# Altium integrated library FSC Logic Buffer Line Driver.IntLib: 127 symbols (part 2 of 3)
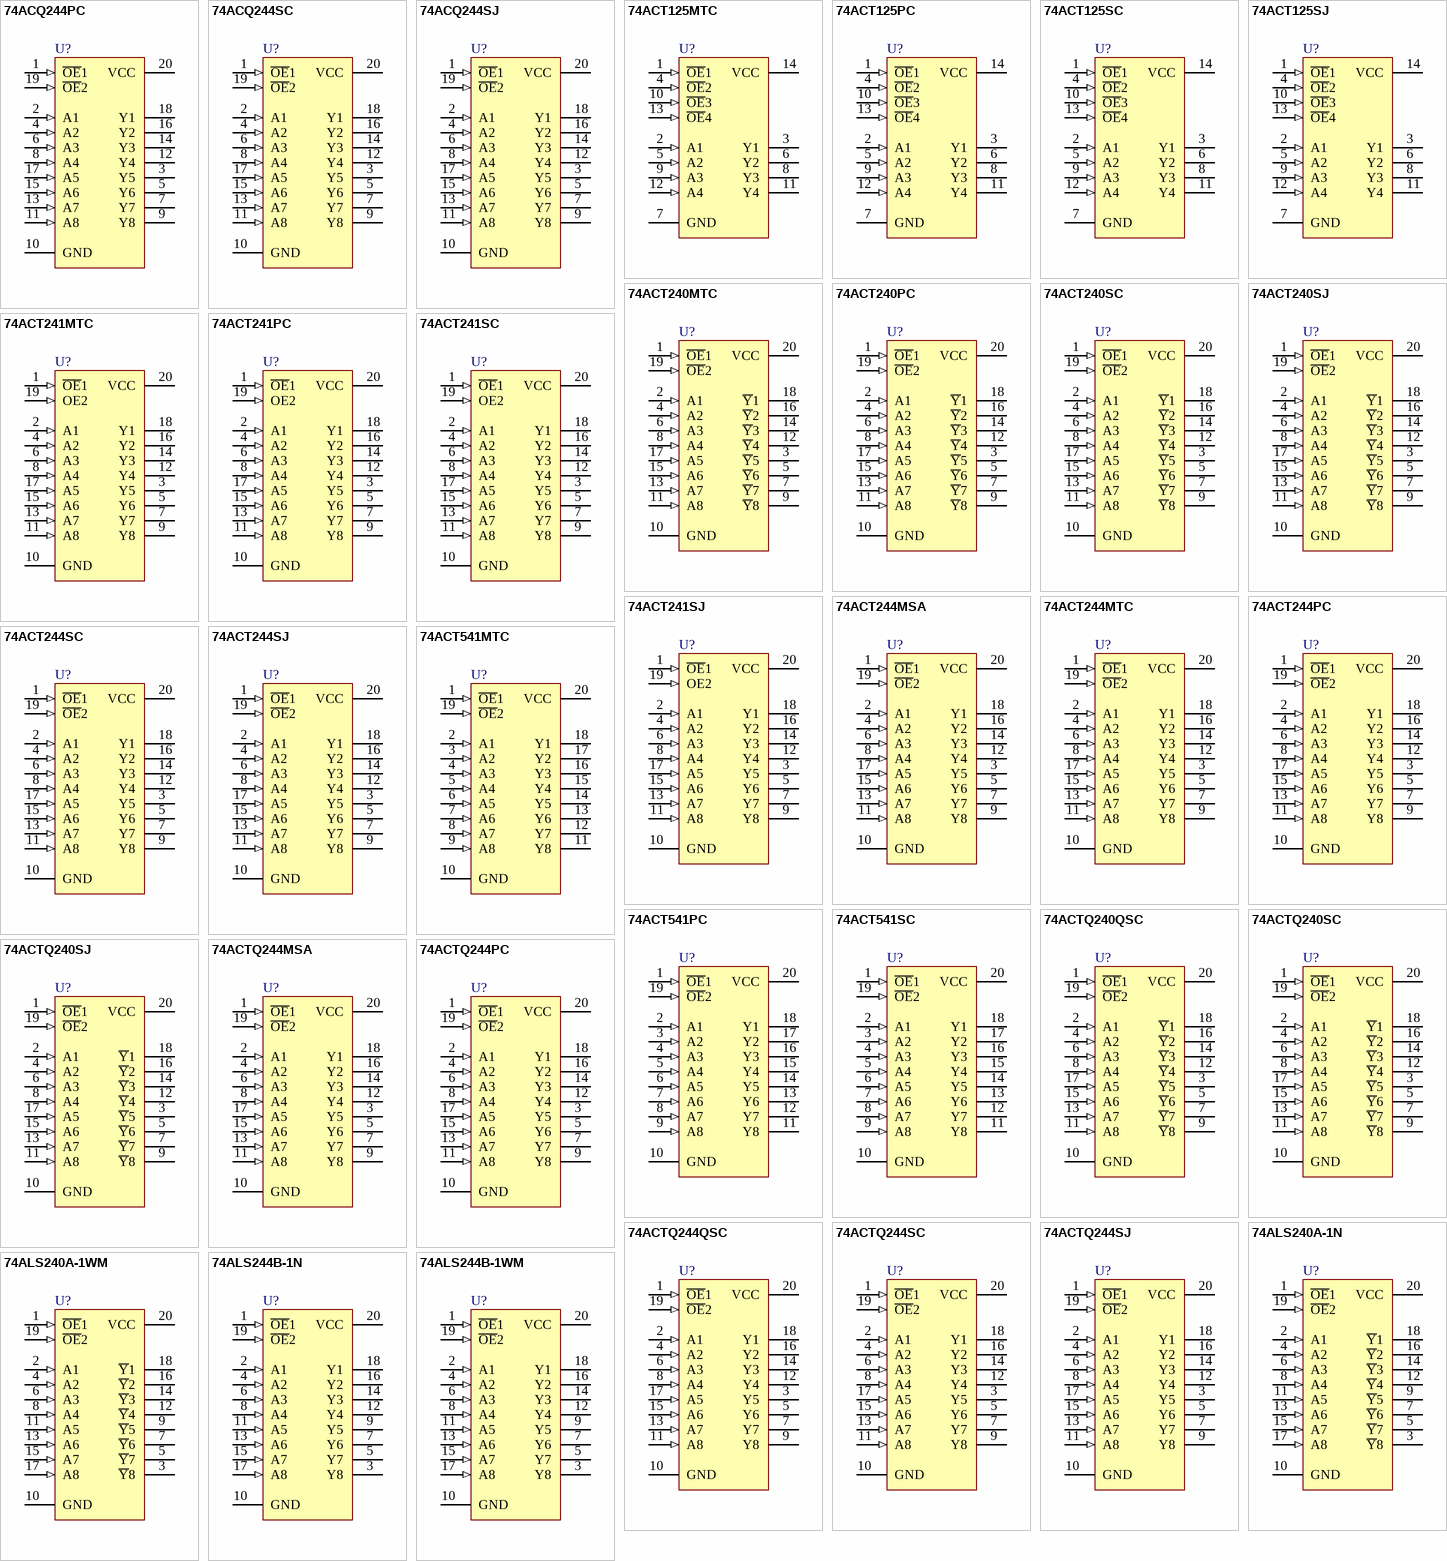
[diagram p5: symbols 74ACQ244PC to 74ALS244B-1WM]

## 74ACT240SJ
designator U?
Octal Buffer/Line Driver with 3-State Output; Published: 17-Jul-2002; LatestRevisionDate: 13-Apr-2006; LatestRevisionNote: IPC-7351 Footprint Added.; DatasheetVersion: Nov-1999; PackageVersion: 2000; PackageReference: M20D; Publisher: Altium Limited; PackageDescription: 20-Pin Small Outline Package 1.27 mm Pitch; ComponentLink1Description: Manufacturer Link; ComponentLink1URL: http://www.fairchildsemi.com/; ComponentLink2Description: Datasheet; ComponentLink2URL: http://www.fairchildsemi.com/ds/74%2F74AC240.pdf
footprint M20D_N (SOP, 20-Leads, Body 12.6x5.3mm, Pitch 1.27mm, IPC Medium Density)
footprint M20D_L (SOP, 20-Leads, Body 12.6x5.3mm, Pitch 1.27mm, IPC High Density)
footprint M20D_M (SOP, 20-Leads, Body 12.6x5.3mm, Pitch 1.27mm, IPC Low Density)
3D model M20D (20-Pin Small Outline Package 1.27 mm Pitch)
signal-integrity model 74ACT240SJ
pins: 1 ~{OE}1 (in), 2 A1 (in), 3 ~{Y}5 (hiz), 4 A2 (in), 5 ~{Y}6 (hiz), 6 A3 (in), 7 ~{Y}7 (hiz), 8 A4 (in), 9 ~{Y}8 (hiz), 10 GND (power), 11 A8 (in), 12 ~{Y}4 (hiz), 13 A7 (in), 14 ~{Y}3 (hiz), 15 A6 (in), 16 ~{Y}2 (hiz), 17 A5 (in), 18 ~{Y}1 (hiz), 19 ~{OE}2 (in), 20 VCC (power)

## 74ACT241MTC
designator U?
Octal Buffer/Line Driver with 3-State Output; Published: 17-Jul-2002; LatestRevisionDate: 29-May-2009; LatestRevisionNote: IPC-7351 Footprint Added.; DatasheetVersion: Nov-1999; PackageVersion: 2000; PackageReference: MTC20; Publisher: Altium Limited; PackageDescription: 20-Pin Thin Small Outline Package 0.65 mm Pitch; ComponentLink1Description: Manufacturer Link; ComponentLink1URL: http://www.fairchildsemi.com/; ComponentLink2Description: Datasheet; ComponentLink2URL: http://www.fairchildsemi.com/ds/74%2F74AC241.pdf
footprint MTC20_N (TSOP, 20-Leads, Body 6.5x4.4mm, Pitch 0.65mm, IPC Medium Density)
footprint MTC20_L (TSOP, 20-Leads, Body 6.5x4.4mm, Pitch 0.65mm, IPC High Density)
footprint MTC20_M (TSOP, 20-Leads, Body 6.5x4.4mm, Pitch 0.65mm, IPC Low Density)
3D model MTC20 (20-Pin Thin Small Outline Package 0.65 mm Pitch)
signal-integrity model 74ACT241MTC
pins: 1 ~{OE}1 (in), 2 A1 (in), 3 Y5 (hiz), 4 A2 (in), 5 Y6 (hiz), 6 A3 (in), 7 Y7 (hiz), 8 A4 (in), 9 Y8 (hiz), 10 GND (power), 11 A8 (in), 12 Y4 (hiz), 13 A7 (in), 14 Y3 (hiz), 15 A6 (in), 16 Y2 (hiz), 17 A5 (in), 18 Y1 (hiz), 19 OE2 (in), 20 VCC (power)

## 74ACT241PC
designator U?
Octal Buffer/Line Driver with 3-State Output; Published: 17-Jul-2002; LatestRevisionDate: 29-May-2009; LatestRevisionNote: Component Body Added.; DatasheetVersion: Nov-1999; PackageVersion: 2000; PackageReference: N20A; Publisher: Altium Limited; PackageDescription: DIP, 20-Pin, Row Spacing 7.62 mm, Pitch 2.54 mm; Code_JEDEC: MS-001-AD; ComponentLink1Description: Manufacturer Link; ComponentLink1URL: http://www.fairchildsemi.com/; ComponentLink2Description: Datasheet; ComponentLink2URL: http://www.fairchildsemi.com/ds/74%2F74AC241.pdf
footprint N20A (DIP, 20-Leads, Row Spacing 7.62mm, Pitch 2.54mm, Body 26.07x6.6mm)
3D model N20A (DIP, 20-Pin, Row Spacing 7.62 mm, Pitch 2.54 mm)
signal-integrity model 74ACT241PC
pins: 1 ~{OE}1 (in), 2 A1 (in), 3 Y5 (hiz), 4 A2 (in), 5 Y6 (hiz), 6 A3 (in), 7 Y7 (hiz), 8 A4 (in), 9 Y8 (hiz), 10 GND (power), 11 A8 (in), 12 Y4 (hiz), 13 A7 (in), 14 Y3 (hiz), 15 A6 (in), 16 Y2 (hiz), 17 A5 (in), 18 Y1 (hiz), 19 OE2 (in), 20 VCC (power)

## 74ACT241SC
designator U?
Octal Buffer/Line Driver with 3-State Output; Published: 17-Jul-2002; LatestRevisionDate: 13-Apr-2006; LatestRevisionNote: IPC-7351 Footprint Added.; DatasheetVersion: Nov-1999; PackageVersion: 2000; PackageReference: M20B; Publisher: Altium Limited; PackageDescription: 20-Pin Small Outline Integrated Circuit 1.27 mm Pitch; Code_JEDEC: MS-013-AC; Code_IPC: SOIC127P1030-20; ComponentLink1Description: Manufacturer Link; ComponentLink1URL: http://www.fairchildsemi.com/; ComponentLink2Description: Datasheet; ComponentLink2URL: http://www.fairchildsemi.com/ds/74%2F74AC241.pdf
footprint M20B_N (SOIC, 20-Leads, Body 12.8x7.5mm, Pitch 1.27mm, IPC Medium Density)
footprint M20B_L (SOIC, 20-Leads, Body 12.8x7.5mm, Pitch 1.27mm, IPC High Density)
footprint M20B_M (SOIC, 20-Leads, Body 12.8x7.5mm, Pitch 1.27mm, IPC Low Density)
3D model M20B (20-Pin Small Outline Integrated Circuit 1.27 mm Pitch)
signal-integrity model 74ACT241SC
pins: 1 ~{OE}1 (in), 2 A1 (in), 3 Y5 (hiz), 4 A2 (in), 5 Y6 (hiz), 6 A3 (in), 7 Y7 (hiz), 8 A4 (in), 9 Y8 (hiz), 10 GND (power), 11 A8 (in), 12 Y4 (hiz), 13 A7 (in), 14 Y3 (hiz), 15 A6 (in), 16 Y2 (hiz), 17 A5 (in), 18 Y1 (hiz), 19 OE2 (in), 20 VCC (power)

## 74ACT241SJ
designator U?
Octal Buffer/Line Driver with 3-State Output; Published: 17-Jul-2002; LatestRevisionDate: 13-Apr-2006; LatestRevisionNote: IPC-7351 Footprint Added.; DatasheetVersion: Nov-1999; PackageVersion: 2000; PackageReference: M20D; Publisher: Altium Limited; PackageDescription: 20-Pin Small Outline Package 1.27 mm Pitch; ComponentLink1Description: Manufacturer Link; ComponentLink1URL: http://www.fairchildsemi.com/; ComponentLink2Description: Datasheet; ComponentLink2URL: http://www.fairchildsemi.com/ds/74%2F74AC241.pdf
footprint M20D_N (SOP, 20-Leads, Body 12.6x5.3mm, Pitch 1.27mm, IPC Medium Density)
footprint M20D_L (SOP, 20-Leads, Body 12.6x5.3mm, Pitch 1.27mm, IPC High Density)
footprint M20D_M (SOP, 20-Leads, Body 12.6x5.3mm, Pitch 1.27mm, IPC Low Density)
3D model M20D (20-Pin Small Outline Package 1.27 mm Pitch)
signal-integrity model 74ACT241SJ
pins: 1 ~{OE}1 (in), 2 A1 (in), 3 Y5 (hiz), 4 A2 (in), 5 Y6 (hiz), 6 A3 (in), 7 Y7 (hiz), 8 A4 (in), 9 Y8 (hiz), 10 GND (power), 11 A8 (in), 12 Y4 (hiz), 13 A7 (in), 14 Y3 (hiz), 15 A6 (in), 16 Y2 (hiz), 17 A5 (in), 18 Y1 (hiz), 19 OE2 (in), 20 VCC (power)

## 74ACT244MSA
designator U?
Octal Buffer/Line Driver with 3-State Output; Published: 17-Jul-2002; LatestRevisionDate: 29-May-2009; LatestRevisionNote: IPC-7351 Footprint Added.; DatasheetVersion: Nov-1999; PackageVersion: 2000; PackageReference: MSA20; Publisher: Altium Limited; PackageDescription: 20-Pin Small Outline Package 0.65 mm Pitch; ComponentLink1Description: Manufacturer Link; ComponentLink1URL: http://www.fairchildsemi.com/; ComponentLink2Description: Datasheet; ComponentLink2URL: http://www.fairchildsemi.com/ds/74%2F74AC244.pdf
footprint MSA20_N (SOP, 20-Leads, Body 7.3x5.3mm, Pitch 0.65mm, IPC Medium Density)
footprint MSA20_L (SOP, 20-Leads, Body 7.3x5.3mm, Pitch 0.65mm, IPC High Density)
footprint MSA20_M (SOP, 20-Leads, Body 7.3x5.3mm, Pitch 0.65mm, IPC Low Density)
3D model MSA20 (20-Pin Small Outline Package 0.65 mm Pitch)
signal-integrity model 74ACT244MSA
pins: 1 ~{OE}1 (in), 2 A1 (in), 3 Y5 (hiz), 4 A2 (in), 5 Y6 (hiz), 6 A3 (in), 7 Y7 (hiz), 8 A4 (in), 9 Y8 (hiz), 10 GND (power), 11 A8 (in), 12 Y4 (hiz), 13 A7 (in), 14 Y3 (hiz), 15 A6 (in), 16 Y2 (hiz), 17 A5 (in), 18 Y1 (hiz), 19 ~{OE}2 (in), 20 VCC (power)

## 74ACT244MTC
designator U?
Octal Buffer/Line Driver with 3-State Output; Published: 17-Jul-2002; LatestRevisionDate: 29-May-2009; LatestRevisionNote: IPC-7351 Footprint Added.; DatasheetVersion: Nov-1999; PackageVersion: 2000; PackageReference: MTC20; Publisher: Altium Limited; PackageDescription: 20-Pin Thin Small Outline Package 0.65 mm Pitch; ComponentLink1Description: Manufacturer Link; ComponentLink1URL: http://www.fairchildsemi.com/; ComponentLink2Description: Datasheet; ComponentLink2URL: http://www.fairchildsemi.com/ds/74%2F74AC244.pdf
footprint MTC20_N (TSOP, 20-Leads, Body 6.5x4.4mm, Pitch 0.65mm, IPC Medium Density)
footprint MTC20_L (TSOP, 20-Leads, Body 6.5x4.4mm, Pitch 0.65mm, IPC High Density)
footprint MTC20_M (TSOP, 20-Leads, Body 6.5x4.4mm, Pitch 0.65mm, IPC Low Density)
3D model MTC20 (20-Pin Thin Small Outline Package 0.65 mm Pitch)
signal-integrity model 74ACT244MTC
pins: 1 ~{OE}1 (in), 2 A1 (in), 3 Y5 (hiz), 4 A2 (in), 5 Y6 (hiz), 6 A3 (in), 7 Y7 (hiz), 8 A4 (in), 9 Y8 (hiz), 10 GND (power), 11 A8 (in), 12 Y4 (hiz), 13 A7 (in), 14 Y3 (hiz), 15 A6 (in), 16 Y2 (hiz), 17 A5 (in), 18 Y1 (hiz), 19 ~{OE}2 (in), 20 VCC (power)

## 74ACT244PC
designator U?
Octal Buffer/Line Driver with 3-State Output; Published: 17-Jul-2002; LatestRevisionDate: 29-May-2009; LatestRevisionNote: Component Body Added.; DatasheetVersion: Nov-1999; PackageVersion: 2000; PackageReference: N20A; Publisher: Altium Limited; PackageDescription: DIP, 20-Pin, Row Spacing 7.62 mm, Pitch 2.54 mm; Code_JEDEC: MS-001-AD; ComponentLink1Description: Manufacturer Link; ComponentLink1URL: http://www.fairchildsemi.com/; ComponentLink2Description: Datasheet; ComponentLink2URL: http://www.fairchildsemi.com/ds/74%2F74AC244.pdf
footprint N20A (DIP, 20-Leads, Row Spacing 7.62mm, Pitch 2.54mm, Body 26.07x6.6mm)
3D model N20A (DIP, 20-Pin, Row Spacing 7.62 mm, Pitch 2.54 mm)
signal-integrity model 74ACT244PC
pins: 1 ~{OE}1 (in), 2 A1 (in), 3 Y5 (hiz), 4 A2 (in), 5 Y6 (hiz), 6 A3 (in), 7 Y7 (hiz), 8 A4 (in), 9 Y8 (hiz), 10 GND (power), 11 A8 (in), 12 Y4 (hiz), 13 A7 (in), 14 Y3 (hiz), 15 A6 (in), 16 Y2 (hiz), 17 A5 (in), 18 Y1 (hiz), 19 ~{OE}2 (in), 20 VCC (power)

## 74ACT244SC
designator U?
Octal Buffer/Line Driver with 3-State Output; Published: 17-Jul-2002; LatestRevisionDate: 13-Apr-2006; LatestRevisionNote: IPC-7351 Footprint Added.; DatasheetVersion: Nov-1999; PackageVersion: 2000; PackageReference: M20B; Publisher: Altium Limited; PackageDescription: 20-Pin Small Outline Integrated Circuit 1.27 mm Pitch; Code_JEDEC: MS-013-AC; Code_IPC: SOIC127P1030-20; ComponentLink1Description: Manufacturer Link; ComponentLink1URL: http://www.fairchildsemi.com/; ComponentLink2Description: Datasheet; ComponentLink2URL: http://www.fairchildsemi.com/ds/74%2F74AC244.pdf
footprint M20B_N (SOIC, 20-Leads, Body 12.8x7.5mm, Pitch 1.27mm, IPC Medium Density)
footprint M20B_L (SOIC, 20-Leads, Body 12.8x7.5mm, Pitch 1.27mm, IPC High Density)
footprint M20B_M (SOIC, 20-Leads, Body 12.8x7.5mm, Pitch 1.27mm, IPC Low Density)
3D model M20B (20-Pin Small Outline Integrated Circuit 1.27 mm Pitch)
signal-integrity model 74ACT244SC
pins: 1 ~{OE}1 (in), 2 A1 (in), 3 Y5 (hiz), 4 A2 (in), 5 Y6 (hiz), 6 A3 (in), 7 Y7 (hiz), 8 A4 (in), 9 Y8 (hiz), 10 GND (power), 11 A8 (in), 12 Y4 (hiz), 13 A7 (in), 14 Y3 (hiz), 15 A6 (in), 16 Y2 (hiz), 17 A5 (in), 18 Y1 (hiz), 19 ~{OE}2 (in), 20 VCC (power)

## 74ACT244SJ
designator U?
Octal Buffer/Line Driver with 3-State Output; Published: 17-Jul-2002; LatestRevisionDate: 13-Apr-2006; LatestRevisionNote: IPC-7351 Footprint Added.; DatasheetVersion: Nov-1999; PackageVersion: 2000; PackageReference: M20D; Publisher: Altium Limited; PackageDescription: 20-Pin Small Outline Package 1.27 mm Pitch; ComponentLink1Description: Manufacturer Link; ComponentLink1URL: http://www.fairchildsemi.com/; ComponentLink2Description: Datasheet; ComponentLink2URL: http://www.fairchildsemi.com/ds/74%2F74AC244.pdf
footprint M20D_N (SOP, 20-Leads, Body 12.6x5.3mm, Pitch 1.27mm, IPC Medium Density)
footprint M20D_L (SOP, 20-Leads, Body 12.6x5.3mm, Pitch 1.27mm, IPC High Density)
footprint M20D_M (SOP, 20-Leads, Body 12.6x5.3mm, Pitch 1.27mm, IPC Low Density)
3D model M20D (20-Pin Small Outline Package 1.27 mm Pitch)
signal-integrity model 74ACT244SJ
pins: 1 ~{OE}1 (in), 2 A1 (in), 3 Y5 (hiz), 4 A2 (in), 5 Y6 (hiz), 6 A3 (in), 7 Y7 (hiz), 8 A4 (in), 9 Y8 (hiz), 10 GND (power), 11 A8 (in), 12 Y4 (hiz), 13 A7 (in), 14 Y3 (hiz), 15 A6 (in), 16 Y2 (hiz), 17 A5 (in), 18 Y1 (hiz), 19 ~{OE}2 (in), 20 VCC (power)

## 74ACT541MTC
designator U?
Octal Buffer/Line Driver with 3-State Output; Published: 17-Jul-2002; LatestRevisionDate: 29-May-2009; LatestRevisionNote: IPC-7351 Footprint Added.; DatasheetVersion: Oct-1999; PackageVersion: 2000; PackageReference: MTC20; Publisher: Altium Limited; PackageDescription: 20-Pin Thin Small Outline Package 0.65 mm Pitch; ComponentLink1Description: Manufacturer Link; ComponentLink1URL: http://www.fairchildsemi.com/; ComponentLink2Description: Datasheet; ComponentLink2URL: http://www.fairchildsemi.com/ds/74%2F74AC541.pdf
footprint MTC20_N (TSOP, 20-Leads, Body 6.5x4.4mm, Pitch 0.65mm, IPC Medium Density)
footprint MTC20_L (TSOP, 20-Leads, Body 6.5x4.4mm, Pitch 0.65mm, IPC High Density)
footprint MTC20_M (TSOP, 20-Leads, Body 6.5x4.4mm, Pitch 0.65mm, IPC Low Density)
3D model MTC20 (20-Pin Thin Small Outline Package 0.65 mm Pitch)
signal-integrity model 74ACT541MTC
pins: 1 ~{OE}1 (in), 2 A1 (in), 3 A2 (in), 4 A3 (in), 5 A4 (in), 6 A5 (in), 7 A6 (in), 8 A7 (in), 9 A8 (in), 10 GND (power), 11 Y8 (hiz), 12 Y7 (hiz), 13 Y6 (hiz), 14 Y5 (hiz), 15 Y4 (hiz), 16 Y3 (hiz), 17 Y2 (hiz), 18 Y1 (hiz), 19 ~{OE}2 (in), 20 VCC (power)

## 74ACT541PC
designator U?
Octal Buffer/Line Driver with 3-State Output; Published: 17-Jul-2002; LatestRevisionDate: 29-May-2009; LatestRevisionNote: Component Body Added.; DatasheetVersion: Oct-1999; PackageVersion: 2000; PackageReference: N20A; Publisher: Altium Limited; PackageDescription: DIP, 20-Pin, Row Spacing 7.62 mm, Pitch 2.54 mm; Code_JEDEC: MS-001-AD; ComponentLink1Description: Manufacturer Link; ComponentLink1URL: http://www.fairchildsemi.com/; ComponentLink2Description: Datasheet; ComponentLink2URL: http://www.fairchildsemi.com/ds/74%2F74AC541.pdf
footprint N20A (DIP, 20-Leads, Row Spacing 7.62mm, Pitch 2.54mm, Body 26.07x6.6mm)
3D model N20A (DIP, 20-Pin, Row Spacing 7.62 mm, Pitch 2.54 mm)
signal-integrity model 74ACT541PC
pins: 1 ~{OE}1 (in), 2 A1 (in), 3 A2 (in), 4 A3 (in), 5 A4 (in), 6 A5 (in), 7 A6 (in), 8 A7 (in), 9 A8 (in), 10 GND (power), 11 Y8 (hiz), 12 Y7 (hiz), 13 Y6 (hiz), 14 Y5 (hiz), 15 Y4 (hiz), 16 Y3 (hiz), 17 Y2 (hiz), 18 Y1 (hiz), 19 ~{OE}2 (in), 20 VCC (power)

## 74ACT541SC
designator U?
Octal Buffer/Line Driver with 3-State Output; Published: 17-Jul-2002; LatestRevisionDate: 13-Apr-2006; LatestRevisionNote: IPC-7351 Footprint Added.; DatasheetVersion: Oct-1999; PackageVersion: 2000; PackageReference: M20B; Publisher: Altium Limited; PackageDescription: 20-Pin Small Outline Integrated Circuit 1.27 mm Pitch; Code_JEDEC: MS-013-AC; Code_IPC: SOIC127P1030-20; ComponentLink1Description: Manufacturer Link; ComponentLink1URL: http://www.fairchildsemi.com/; ComponentLink2Description: Datasheet; ComponentLink2URL: http://www.fairchildsemi.com/ds/74%2F74AC541.pdf
footprint M20B_N (SOIC, 20-Leads, Body 12.8x7.5mm, Pitch 1.27mm, IPC Medium Density)
footprint M20B_L (SOIC, 20-Leads, Body 12.8x7.5mm, Pitch 1.27mm, IPC High Density)
footprint M20B_M (SOIC, 20-Leads, Body 12.8x7.5mm, Pitch 1.27mm, IPC Low Density)
3D model M20B (20-Pin Small Outline Integrated Circuit 1.27 mm Pitch)
signal-integrity model 74ACT541SC
pins: 1 ~{OE}1 (in), 2 A1 (in), 3 A2 (in), 4 A3 (in), 5 A4 (in), 6 A5 (in), 7 A6 (in), 8 A7 (in), 9 A8 (in), 10 GND (power), 11 Y8 (hiz), 12 Y7 (hiz), 13 Y6 (hiz), 14 Y5 (hiz), 15 Y4 (hiz), 16 Y3 (hiz), 17 Y2 (hiz), 18 Y1 (hiz), 19 ~{OE}2 (in), 20 VCC (power)

## 74ACTQ240QSC
designator U?
Octal Buffer/Line Driver with 3-State Output; Published: 17-Jul-2002; LatestRevisionDate: 29-May-2009; LatestRevisionNote: IPC-7351 Footprint Added.; DatasheetVersion: Nov-1999; PackageVersion: 2000; PackageReference: MQA20; Publisher: Altium Limited; PackageDescription: 20-Pin Small Outline Package 0.635 mm Pitch; ComponentLink1Description: Manufacturer Link; ComponentLink1URL: http://www.fairchildsemi.com/; ComponentLink2Description: Datasheet; ComponentLink2URL: http://www.fairchildsemi.com/ds/74%2F74ACQ240.pdf
footprint MQA20_N (SOP, 20-Leads, Body 8.7x3.9mm, Pitch 0.635mm, IPC Medium Density)
footprint MQA20_L (SOP, 20-Leads, Body 8.7x3.9mm, Pitch 0.635mm, IPC High Density)
footprint MQA20_M (SOP, 20-Leads, Body 8.7x3.9mm, Pitch 0.635mm, IPC Low Density)
3D model MQA20 (20-Pin Small Outline Package 0.635 mm Pitch)
pins: 1 ~{OE}1 (in), 2 A1 (in), 3 ~{Y}5 (hiz), 4 A2 (in), 5 ~{Y}6 (hiz), 6 A3 (in), 7 ~{Y}7 (hiz), 8 A4 (in), 9 ~{Y}8 (hiz), 10 GND (power), 11 A8 (in), 12 ~{Y}4 (hiz), 13 A7 (in), 14 ~{Y}3 (hiz), 15 A6 (in), 16 ~{Y}2 (hiz), 17 A5 (in), 18 ~{Y}1 (hiz), 19 ~{OE}2 (in), 20 VCC (power)

## 74ACTQ240SC
designator U?
Octal Buffer/Line Driver with 3-State Output; Published: 17-Jul-2002; LatestRevisionDate: 13-Apr-2006; LatestRevisionNote: IPC-7351 Footprint Added.; DatasheetVersion: Nov-1999; PackageVersion: 2000; PackageReference: M20B; Publisher: Altium Limited; PackageDescription: 20-Pin Small Outline Integrated Circuit 1.27 mm Pitch; Code_JEDEC: MS-013-AC; Code_IPC: SOIC127P1030-20; ComponentLink1Description: Manufacturer Link; ComponentLink1URL: http://www.fairchildsemi.com/; ComponentLink2Description: Datasheet; ComponentLink2URL: http://www.fairchildsemi.com/ds/74%2F74ACQ240.pdf
footprint M20B_N (SOIC, 20-Leads, Body 12.8x7.5mm, Pitch 1.27mm, IPC Medium Density)
footprint M20B_L (SOIC, 20-Leads, Body 12.8x7.5mm, Pitch 1.27mm, IPC High Density)
footprint M20B_M (SOIC, 20-Leads, Body 12.8x7.5mm, Pitch 1.27mm, IPC Low Density)
3D model M20B (20-Pin Small Outline Integrated Circuit 1.27 mm Pitch)
pins: 1 ~{OE}1 (in), 2 A1 (in), 3 ~{Y}5 (hiz), 4 A2 (in), 5 ~{Y}6 (hiz), 6 A3 (in), 7 ~{Y}7 (hiz), 8 A4 (in), 9 ~{Y}8 (hiz), 10 GND (power), 11 A8 (in), 12 ~{Y}4 (hiz), 13 A7 (in), 14 ~{Y}3 (hiz), 15 A6 (in), 16 ~{Y}2 (hiz), 17 A5 (in), 18 ~{Y}1 (hiz), 19 ~{OE}2 (in), 20 VCC (power)

## 74ACTQ240SJ
designator U?
Octal Buffer/Line Driver with 3-State Output; Published: 17-Jul-2002; LatestRevisionDate: 13-Apr-2006; LatestRevisionNote: IPC-7351 Footprint Added.; DatasheetVersion: Nov-1999; PackageVersion: 2000; PackageReference: M20D; Publisher: Altium Limited; PackageDescription: 20-Pin Small Outline Package 1.27 mm Pitch; ComponentLink1Description: Manufacturer Link; ComponentLink1URL: http://www.fairchildsemi.com/; ComponentLink2Description: Datasheet; ComponentLink2URL: http://www.fairchildsemi.com/ds/74%2F74ACQ240.pdf
footprint M20D_N (SOP, 20-Leads, Body 12.6x5.3mm, Pitch 1.27mm, IPC Medium Density)
footprint M20D_L (SOP, 20-Leads, Body 12.6x5.3mm, Pitch 1.27mm, IPC High Density)
footprint M20D_M (SOP, 20-Leads, Body 12.6x5.3mm, Pitch 1.27mm, IPC Low Density)
3D model M20D (20-Pin Small Outline Package 1.27 mm Pitch)
pins: 1 ~{OE}1 (in), 2 A1 (in), 3 ~{Y}5 (hiz), 4 A2 (in), 5 ~{Y}6 (hiz), 6 A3 (in), 7 ~{Y}7 (hiz), 8 A4 (in), 9 ~{Y}8 (hiz), 10 GND (power), 11 A8 (in), 12 ~{Y}4 (hiz), 13 A7 (in), 14 ~{Y}3 (hiz), 15 A6 (in), 16 ~{Y}2 (hiz), 17 A5 (in), 18 ~{Y}1 (hiz), 19 ~{OE}2 (in), 20 VCC (power)

## 74ACTQ244MSA
designator U?
Octal Buffer/Line Driver with 3-State Output; Published: 17-Jul-2002; LatestRevisionDate: 29-May-2009; LatestRevisionNote: IPC-7351 Footprint Added.; DatasheetVersion: Nov-1999; PackageVersion: 2000; PackageReference: MSA20; Publisher: Altium Limited; PackageDescription: 20-Pin Small Outline Package 0.65 mm Pitch; ComponentLink1Description: Manufacturer Link; ComponentLink1URL: http://www.fairchildsemi.com/; ComponentLink2Description: Datasheet; ComponentLink2URL: http://www.fairchildsemi.com/ds/74%2F74ACQ244.pdf
footprint MSA20_N (SOP, 20-Leads, Body 7.3x5.3mm, Pitch 0.65mm, IPC Medium Density)
footprint MSA20_L (SOP, 20-Leads, Body 7.3x5.3mm, Pitch 0.65mm, IPC High Density)
footprint MSA20_M (SOP, 20-Leads, Body 7.3x5.3mm, Pitch 0.65mm, IPC Low Density)
3D model MSA20 (20-Pin Small Outline Package 0.65 mm Pitch)
pins: 1 ~{OE}1 (in), 2 A1 (in), 3 Y5 (hiz), 4 A2 (in), 5 Y6 (hiz), 6 A3 (in), 7 Y7 (hiz), 8 A4 (in), 9 Y8 (hiz), 10 GND (power), 11 A8 (in), 12 Y4 (hiz), 13 A7 (in), 14 Y3 (hiz), 15 A6 (in), 16 Y2 (hiz), 17 A5 (in), 18 Y1 (hiz), 19 ~{OE}2 (in), 20 VCC (power)

## 74ACTQ244PC
designator U?
Octal Buffer/Line Driver with 3-State Output; Published: 17-Jul-2002; LatestRevisionDate: 29-May-2009; LatestRevisionNote: Component Body Added.; DatasheetVersion: Nov-1999; PackageVersion: 2000; PackageReference: N20A; Publisher: Altium Limited; PackageDescription: DIP, 20-Pin, Row Spacing 7.62 mm, Pitch 2.54 mm; Code_JEDEC: MS-001-AD; ComponentLink1Description: Manufacturer Link; ComponentLink1URL: http://www.fairchildsemi.com/; ComponentLink2Description: Datasheet; ComponentLink2URL: http://www.fairchildsemi.com/ds/74%2F74ACQ244.pdf
footprint N20A (DIP, 20-Leads, Row Spacing 7.62mm, Pitch 2.54mm, Body 26.07x6.6mm)
3D model N20A (DIP, 20-Pin, Row Spacing 7.62 mm, Pitch 2.54 mm)
pins: 1 ~{OE}1 (in), 2 A1 (in), 3 Y5 (hiz), 4 A2 (in), 5 Y6 (hiz), 6 A3 (in), 7 Y7 (hiz), 8 A4 (in), 9 Y8 (hiz), 10 GND (power), 11 A8 (in), 12 Y4 (hiz), 13 A7 (in), 14 Y3 (hiz), 15 A6 (in), 16 Y2 (hiz), 17 A5 (in), 18 Y1 (hiz), 19 ~{OE}2 (in), 20 VCC (power)

## 74ACTQ244QSC
designator U?
Octal Buffer/Line Driver with 3-State Output; Published: 17-Jul-2002; LatestRevisionDate: 29-May-2009; LatestRevisionNote: IPC-7351 Footprint Added.; DatasheetVersion: Nov-1999; PackageVersion: 2000; PackageReference: MQA20; Publisher: Altium Limited; PackageDescription: 20-Pin Small Outline Package 0.635 mm Pitch; ComponentLink1Description: Manufacturer Link; ComponentLink1URL: http://www.fairchildsemi.com/; ComponentLink2Description: Datasheet; ComponentLink2URL: http://www.fairchildsemi.com/ds/74%2F74ACQ244.pdf
footprint MQA20_N (SOP, 20-Leads, Body 8.7x3.9mm, Pitch 0.635mm, IPC Medium Density)
footprint MQA20_L (SOP, 20-Leads, Body 8.7x3.9mm, Pitch 0.635mm, IPC High Density)
footprint MQA20_M (SOP, 20-Leads, Body 8.7x3.9mm, Pitch 0.635mm, IPC Low Density)
3D model MQA20 (20-Pin Small Outline Package 0.635 mm Pitch)
pins: 1 ~{OE}1 (in), 2 A1 (in), 3 Y5 (hiz), 4 A2 (in), 5 Y6 (hiz), 6 A3 (in), 7 Y7 (hiz), 8 A4 (in), 9 Y8 (hiz), 10 GND (power), 11 A8 (in), 12 Y4 (hiz), 13 A7 (in), 14 Y3 (hiz), 15 A6 (in), 16 Y2 (hiz), 17 A5 (in), 18 Y1 (hiz), 19 ~{OE}2 (in), 20 VCC (power)

## 74ACTQ244SC
designator U?
Octal Buffer/Line Driver with 3-State Output; Published: 17-Jul-2002; LatestRevisionDate: 13-Apr-2006; LatestRevisionNote: IPC-7351 Footprint Added.; DatasheetVersion: Nov-1999; PackageVersion: 2000; PackageReference: M20B; Publisher: Altium Limited; PackageDescription: 20-Pin Small Outline Integrated Circuit 1.27 mm Pitch; Code_JEDEC: MS-013-AC; Code_IPC: SOIC127P1030-20; ComponentLink1Description: Manufacturer Link; ComponentLink1URL: http://www.fairchildsemi.com/; ComponentLink2Description: Datasheet; ComponentLink2URL: http://www.fairchildsemi.com/ds/74%2F74ACQ244.pdf
footprint M20B_N (SOIC, 20-Leads, Body 12.8x7.5mm, Pitch 1.27mm, IPC Medium Density)
footprint M20B_L (SOIC, 20-Leads, Body 12.8x7.5mm, Pitch 1.27mm, IPC High Density)
footprint M20B_M (SOIC, 20-Leads, Body 12.8x7.5mm, Pitch 1.27mm, IPC Low Density)
3D model M20B (20-Pin Small Outline Integrated Circuit 1.27 mm Pitch)
pins: 1 ~{OE}1 (in), 2 A1 (in), 3 Y5 (hiz), 4 A2 (in), 5 Y6 (hiz), 6 A3 (in), 7 Y7 (hiz), 8 A4 (in), 9 Y8 (hiz), 10 GND (power), 11 A8 (in), 12 Y4 (hiz), 13 A7 (in), 14 Y3 (hiz), 15 A6 (in), 16 Y2 (hiz), 17 A5 (in), 18 Y1 (hiz), 19 ~{OE}2 (in), 20 VCC (power)

## 74ACTQ244SJ
designator U?
Octal Buffer/Line Driver with 3-State Output; Published: 17-Jul-2002; LatestRevisionDate: 13-Apr-2006; LatestRevisionNote: IPC-7351 Footprint Added.; DatasheetVersion: Nov-1999; PackageVersion: 2000; PackageReference: M20D; Publisher: Altium Limited; PackageDescription: 20-Pin Small Outline Package 1.27 mm Pitch; ComponentLink1Description: Manufacturer Link; ComponentLink1URL: http://www.fairchildsemi.com/; ComponentLink2Description: Datasheet; ComponentLink2URL: http://www.fairchildsemi.com/ds/74%2F74ACQ244.pdf
footprint M20D_N (SOP, 20-Leads, Body 12.6x5.3mm, Pitch 1.27mm, IPC Medium Density)
footprint M20D_L (SOP, 20-Leads, Body 12.6x5.3mm, Pitch 1.27mm, IPC High Density)
footprint M20D_M (SOP, 20-Leads, Body 12.6x5.3mm, Pitch 1.27mm, IPC Low Density)
3D model M20D (20-Pin Small Outline Package 1.27 mm Pitch)
pins: 1 ~{OE}1 (in), 2 A1 (in), 3 Y5 (hiz), 4 A2 (in), 5 Y6 (hiz), 6 A3 (in), 7 Y7 (hiz), 8 A4 (in), 9 Y8 (hiz), 10 GND (power), 11 A8 (in), 12 Y4 (hiz), 13 A7 (in), 14 Y3 (hiz), 15 A6 (in), 16 Y2 (hiz), 17 A5 (in), 18 Y1 (hiz), 19 ~{OE}2 (in), 20 VCC (power)

## 74ALS240A-1N
designator U?
Octal 3-State Bus Driver; Published: 17-Jul-2002; LatestRevisionDate: 29-May-2009; LatestRevisionNote: Component Body Added.; DatasheetVersion: Feb-1998; PackageVersion: 2000; PackageReference: N20A; Publisher: Altium Limited; PackageDescription: DIP, 20-Pin, Row Spacing 7.62 mm, Pitch 2.54 mm; Code_JEDEC: MS-001-AD; ComponentLink1Description: Manufacturer Link; ComponentLink1URL: http://www.fairchildsemi.com/; ComponentLink2Description: Datasheet; ComponentLink2URL: http://www.fairchildsemi.com/ds/DM%2FDM74ALS241A.pdf
footprint N20A (DIP, 20-Leads, Row Spacing 7.62mm, Pitch 2.54mm, Body 26.07x6.6mm)
3D model N20A (DIP, 20-Pin, Row Spacing 7.62 mm, Pitch 2.54 mm)
simulation model 74LS240 (SIMCODE)
signal-integrity model 74ALS240A-1N
pins: 1 ~{OE}1 (in), 2 A1 (in), 3 ~{Y}8 (hiz), 4 A2 (in), 5 ~{Y}7 (hiz), 6 A3 (in), 7 ~{Y}6 (hiz), 8 A4 (in), 9 ~{Y}5 (hiz), 10 GND (power), 11 A5 (in), 12 ~{Y}4 (hiz), 13 A6 (in), 14 ~{Y}3 (hiz), 15 A7 (in), 16 ~{Y}2 (hiz), 17 A8 (in), 18 ~{Y}1 (hiz), 19 ~{OE}2 (in), 20 VCC (power)

## 74ALS240A-1WM
designator U?
Octal 3-State Bus Driver; Published: 17-Jul-2002; LatestRevisionDate: 13-Apr-2006; LatestRevisionNote: IPC-7351 Footprint Added.; DatasheetVersion: Feb-1998; PackageVersion: 2000; PackageReference: M20B; Publisher: Altium Limited; PackageDescription: 20-Pin Small Outline Integrated Circuit 1.27 mm Pitch; Code_JEDEC: MS-013-AC; Code_IPC: SOIC127P1030-20; ComponentLink1Description: Manufacturer Link; ComponentLink1URL: http://www.fairchildsemi.com/; ComponentLink2Description: Datasheet; ComponentLink2URL: http://www.fairchildsemi.com/ds/DM%2FDM74ALS241A.pdf
footprint M20B_N (SOIC, 20-Leads, Body 12.8x7.5mm, Pitch 1.27mm, IPC Medium Density)
footprint M20B_L (SOIC, 20-Leads, Body 12.8x7.5mm, Pitch 1.27mm, IPC High Density)
footprint M20B_M (SOIC, 20-Leads, Body 12.8x7.5mm, Pitch 1.27mm, IPC Low Density)
3D model M20B (20-Pin Small Outline Integrated Circuit 1.27 mm Pitch)
simulation model 74LS240 (SIMCODE)
signal-integrity model 74ALS240A-1WM
pins: 1 ~{OE}1 (in), 2 A1 (in), 3 ~{Y}8 (hiz), 4 A2 (in), 5 ~{Y}7 (hiz), 6 A3 (in), 7 ~{Y}6 (hiz), 8 A4 (in), 9 ~{Y}5 (hiz), 10 GND (power), 11 A5 (in), 12 ~{Y}4 (hiz), 13 A6 (in), 14 ~{Y}3 (hiz), 15 A7 (in), 16 ~{Y}2 (hiz), 17 A8 (in), 18 ~{Y}1 (hiz), 19 ~{OE}2 (in), 20 VCC (power)

## 74ALS244B-1N
designator U?
Octal 3-State Bus Driver; Published: 17-Jul-2002; LatestRevisionDate: 29-May-2009; LatestRevisionNote: Component Body Added.; DatasheetVersion: Feb-1998; PackageVersion: 2000; PackageReference: N20A; Publisher: Altium Limited; PackageDescription: DIP, 20-Pin, Row Spacing 7.62 mm, Pitch 2.54 mm; Code_JEDEC: MS-001-AD; ComponentLink1Description: Manufacturer Link; ComponentLink1URL: http://www.fairchildsemi.com/; ComponentLink2Description: Datasheet; ComponentLink2URL: http://www.fairchildsemi.com/ds/DM%2FDM74ALS244A.pdf
footprint N20A (DIP, 20-Leads, Row Spacing 7.62mm, Pitch 2.54mm, Body 26.07x6.6mm)
3D model N20A (DIP, 20-Pin, Row Spacing 7.62 mm, Pitch 2.54 mm)
simulation model 74LS244 (SIMCODE)
signal-integrity model 74ALS244B-1N
pins: 1 ~{OE}1 (in), 2 A1 (in), 3 Y8 (hiz), 4 A2 (in), 5 Y7 (hiz), 6 A3 (in), 7 Y6 (hiz), 8 A4 (in), 9 Y5 (hiz), 10 GND (power), 11 A5 (in), 12 Y4 (hiz), 13 A6 (in), 14 Y3 (hiz), 15 A7 (in), 16 Y2 (hiz), 17 A8 (in), 18 Y1 (hiz), 19 ~{OE}2 (in), 20 VCC (power)

## 74ALS244B-1WM
designator U?
Octal 3-State Bus Driver; Published: 17-Jul-2002; LatestRevisionDate: 13-Apr-2006; LatestRevisionNote: IPC-7351 Footprint Added.; DatasheetVersion: Feb-1998; PackageVersion: 2000; PackageReference: M20B; Publisher: Altium Limited; PackageDescription: 20-Pin Small Outline Integrated Circuit 1.27 mm Pitch; Code_JEDEC: MS-013-AC; Code_IPC: SOIC127P1030-20; ComponentLink1Description: Manufacturer Link; ComponentLink1URL: http://www.fairchildsemi.com/; ComponentLink2Description: Datasheet; ComponentLink2URL: http://www.fairchildsemi.com/ds/DM%2FDM74ALS244A.pdf
footprint M20B_N (SOIC, 20-Leads, Body 12.8x7.5mm, Pitch 1.27mm, IPC Medium Density)
footprint M20B_L (SOIC, 20-Leads, Body 12.8x7.5mm, Pitch 1.27mm, IPC High Density)
footprint M20B_M (SOIC, 20-Leads, Body 12.8x7.5mm, Pitch 1.27mm, IPC Low Density)
3D model M20B (20-Pin Small Outline Integrated Circuit 1.27 mm Pitch)
simulation model 74LS244 (SIMCODE)
signal-integrity model 74ALS244B-1WM
pins: 1 ~{OE}1 (in), 2 A1 (in), 3 Y8 (hiz), 4 A2 (in), 5 Y7 (hiz), 6 A3 (in), 7 Y6 (hiz), 8 A4 (in), 9 Y5 (hiz), 10 GND (power), 11 A5 (in), 12 Y4 (hiz), 13 A6 (in), 14 Y3 (hiz), 15 A7 (in), 16 Y2 (hiz), 17 A8 (in), 18 Y1 (hiz), 19 ~{OE}2 (in), 20 VCC (power)

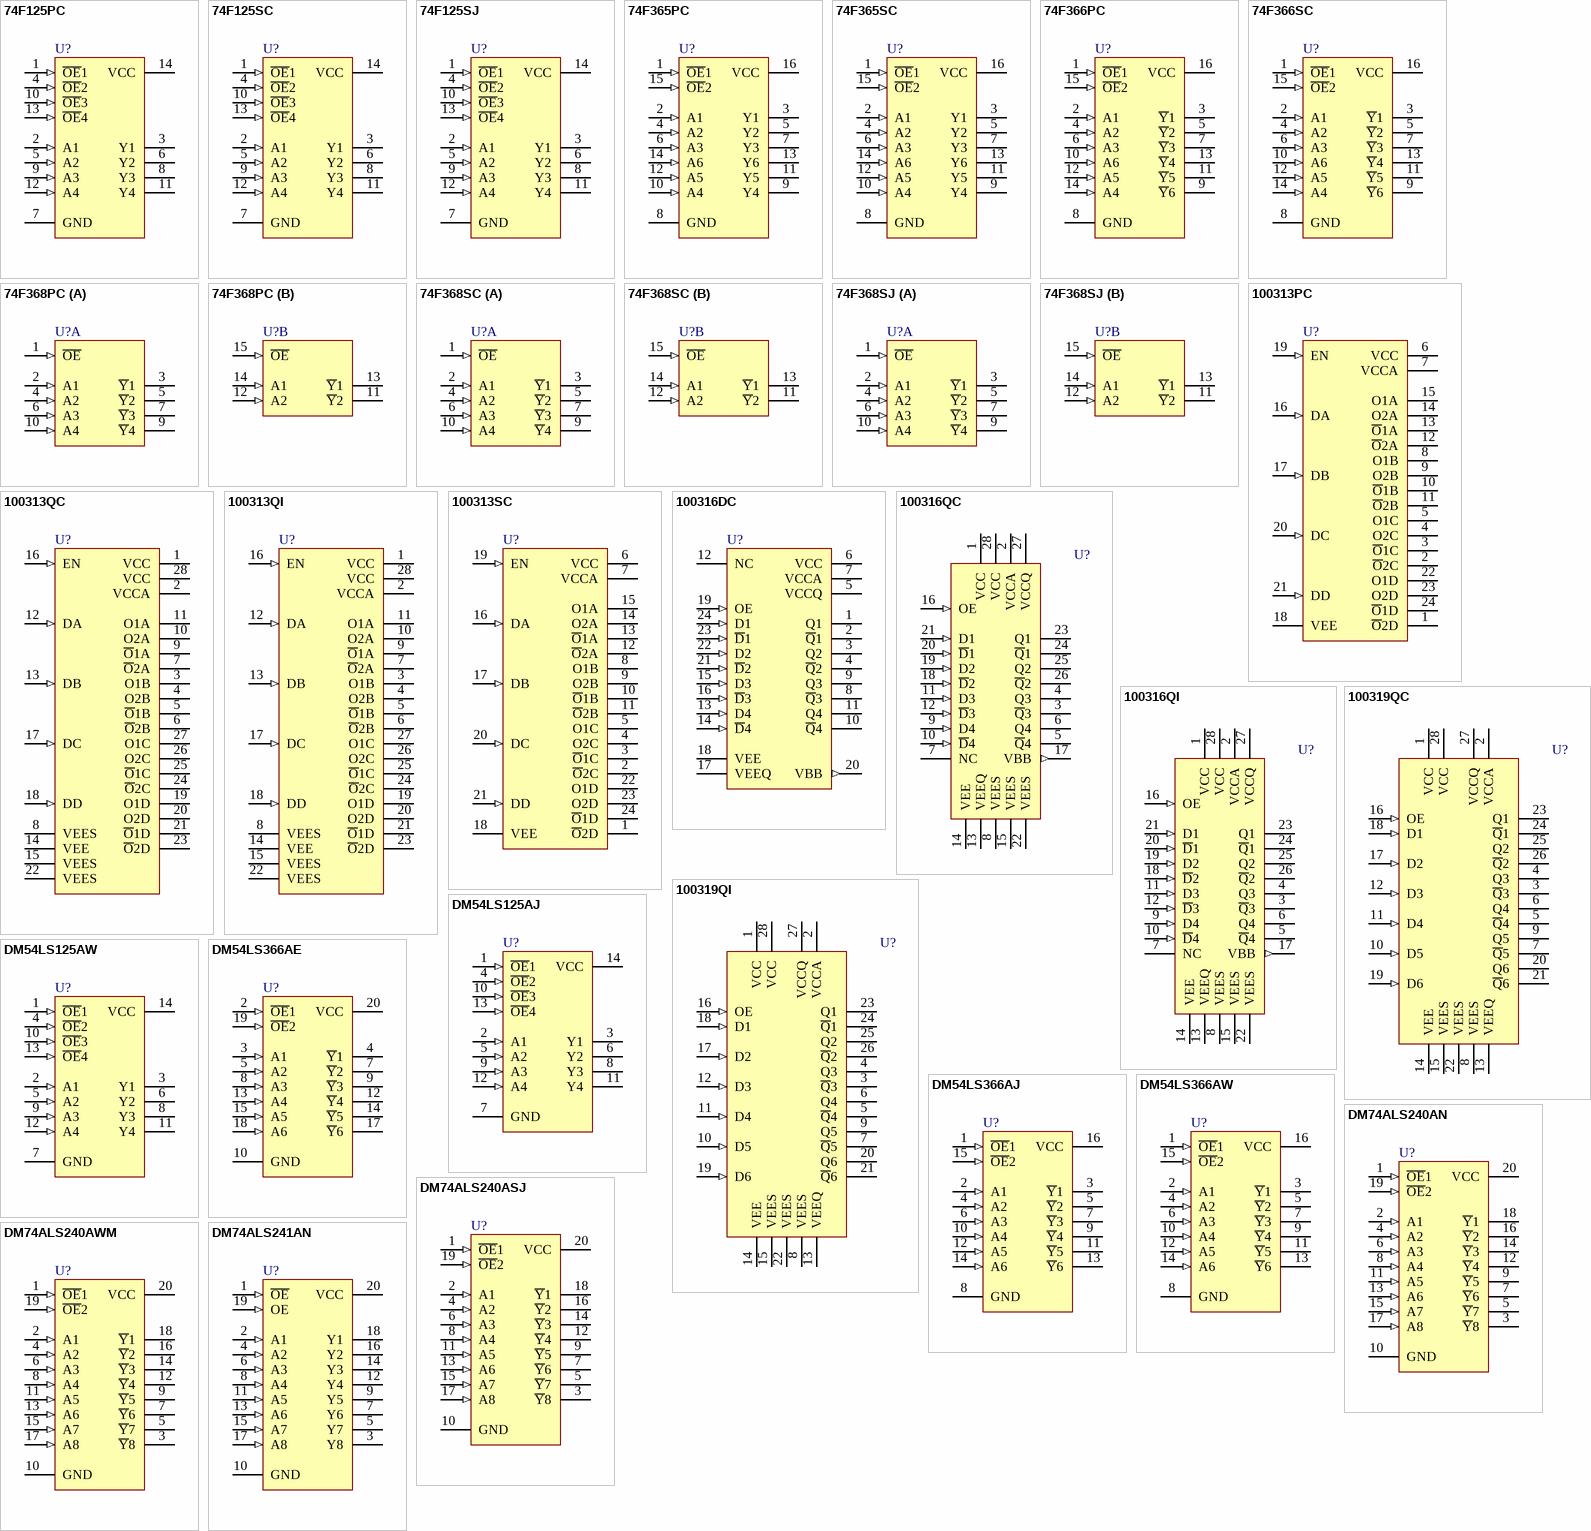
[diagram p2: symbols 74F125PC to DM74ALS241AN]

## 74F125PC
designator U?
3-State Quad Buffer; Published: 17-Jul-2002; LatestRevisionDate: 29-May-2009; LatestRevisionNote: Component Body Added.; DatasheetVersion: Jul-1999; PackageVersion: 2000; PackageReference: N14A; Publisher: Altium Limited; PackageDescription: DIP, 14-Pin, Row Spacing 7.62 mm, Pitch 2.54 mm; ComponentLink1Description: Manufacturer Link; ComponentLink1URL: http://www.fairchildsemi.com/; ComponentLink2Description: Datasheet; ComponentLink2URL: http://www.fairchildsemi.com/ds/74%2F74F125.pdf
footprint N14A (DIP, 14-Leads, Row Spacing 7.62mm, Pitch 2.54mm, Body 19.18x6.35mm)
3D model N14A (DIP, 14-Pin, Row Spacing 7.62 mm, Pitch 2.54 mm)
simulation model 74F125x4 (SIMCODE)
signal-integrity model 74F125PC
pins: 1 ~{OE}1 (in), 2 A1 (in), 3 Y1 (hiz), 4 ~{OE}2 (in), 5 A2 (in), 6 Y2 (hiz), 7 GND (power), 8 Y3 (hiz), 9 A3 (in), 10 ~{OE}3 (in), 11 Y4 (hiz), 12 A4 (in), 13 ~{OE}4 (in), 14 VCC (power)

## 74F125SC
designator U?
3-State Quad Buffer; Published: 17-Jul-2002; LatestRevisionDate: 13-Apr-2006; LatestRevisionNote: IPC-7351 Footprint Added.; DatasheetVersion: Jul-1999; PackageVersion: 2000; PackageReference: M14A; Publisher: Altium Limited; PackageDescription: 14-Pin Small Outline Integrated Circuit 1.27 mm Pitch; Code_IPC: SOIC127P600-14; ComponentLink1Description: Manufacturer Link; ComponentLink1URL: http://www.fairchildsemi.com/; ComponentLink2Description: Datasheet; ComponentLink2URL: http://www.fairchildsemi.com/ds/74%2F74F125.pdf
footprint M14A_N (SOIC, 14-Leads, Body 8.6x3.9mm, Pitch 1.27mm, IPC Medium Density)
footprint M14A_L (SOIC, 14-Leads, Body 8.6x3.9mm, Pitch 1.27mm, IPC High Density)
footprint M14A_M (SOIC, 14-Leads, Body 8.6x3.9mm, Pitch 1.27mm, IPC Low Density)
3D model M14A (14-Pin Small Outline Integrated Circuit 1.27 mm Pitch)
simulation model 74F125x4 (SIMCODE)
signal-integrity model 74F125SC
pins: 1 ~{OE}1 (in), 2 A1 (in), 3 Y1 (hiz), 4 ~{OE}2 (in), 5 A2 (in), 6 Y2 (hiz), 7 GND (power), 8 Y3 (hiz), 9 A3 (in), 10 ~{OE}3 (in), 11 Y4 (hiz), 12 A4 (in), 13 ~{OE}4 (in), 14 VCC (power)

## 74F125SJ
designator U?
3-State Quad Buffer; Published: 17-Jul-2002; LatestRevisionDate: 13-Apr-2006; LatestRevisionNote: IPC-7351 Footprint Added.; DatasheetVersion: Jul-1999; PackageVersion: 2000; PackageReference: M14D; Publisher: Altium Limited; PackageDescription: 14-Pin Small Outline Package 1.27 mm Pitch; ComponentLink1Description: Manufacturer Link; ComponentLink1URL: http://www.fairchildsemi.com/; ComponentLink2Description: Datasheet; ComponentLink2URL: http://www.fairchildsemi.com/ds/74%2F74F125.pdf
footprint M14D_N (SOP, 14-Leads, Body 10.1x5.3mm, Pitch 1.27mm, IPC Medium Density)
footprint M14D_L (SOP, 14-Leads, Body 10.1x5.3mm, Pitch 1.27mm, IPC High Density)
footprint M14D_M (SOP, 14-Leads, Body 10.1x5.3mm, Pitch 1.27mm, IPC Low Density)
3D model M14D (14-Pin Small Outline Package 1.27 mm Pitch)
simulation model 74F125x4 (SIMCODE)
signal-integrity model 74F125SJ
pins: 1 ~{OE}1 (in), 2 A1 (in), 3 Y1 (hiz), 4 ~{OE}2 (in), 5 A2 (in), 6 Y2 (hiz), 7 GND (power), 8 Y3 (hiz), 9 A3 (in), 10 ~{OE}3 (in), 11 Y4 (hiz), 12 A4 (in), 13 ~{OE}4 (in), 14 VCC (power)

## 74F365PC
designator U?
Hex Buffer/Driver with 3-State Output; Published: 17-Jul-2002; LatestRevisionDate: 29-May-2009; LatestRevisionNote: Component Body Added.; DatasheetVersion: Aug-1999; PackageVersion: 2000; PackageReference: N16E; Publisher: Altium Limited; PackageDescription: DIP, 16-Pin, Row Spacing 7.62 mm, Pitch 2.54 mm; ComponentLink1Description: Manufacturer Link; ComponentLink1URL: http://www.fairchildsemi.com/
footprint N16E (DIP, 16-Leads, Row Spacing 7.62mm, Pitch 2.54mm, Body 19.3x6.35mm)
3D model N16E (DIP, 16-Pin, Row Spacing 7.62 mm, Pitch 2.54 mm)
signal-integrity model 74F365PC
pins: 1 ~{OE}1 (in), 2 A1 (in), 3 Y1 (hiz), 4 A2 (in), 5 Y2 (hiz), 6 A3 (in), 7 Y3 (hiz), 8 GND (power), 9 Y4 (hiz), 10 A4 (in), 11 Y5 (hiz), 12 A5 (in), 13 Y6 (hiz), 14 A6 (in), 15 ~{OE}2 (in), 16 VCC (power)

## 74F365SC
designator U?
Hex Buffer/Driver with 3-State Output; Published: 17-Jul-2002; LatestRevisionDate: 13-Apr-2006; LatestRevisionNote: IPC-7351 Footprint Added.; DatasheetVersion: Aug-1999; PackageVersion: 2000; PackageReference: M16A; Publisher: Altium Limited; PackageDescription: 16-Pin Small Outline Integrated Circuit 1.27 mm Pitch; Code_IPC: SOIC127P600-16; ComponentLink1Description: Manufacturer Link; ComponentLink1URL: http://www.fairchildsemi.com/
footprint M16A_N (SOIC, 16-Leads, Body 9.9x3.9mm, Pitch 1.27mm, IPC Medium Density)
footprint M16A_L (SOIC, 16-Leads, Body 9.9x3.9mm, Pitch 1.27mm, IPC High Density)
footprint M16A_M (SOIC, 16-Leads, Body 9.9x3.9mm, Pitch 1.27mm, IPC Low Density)
3D model M16A (16-Pin Small Outline Integrated Circuit 1.27 mm Pitch)
signal-integrity model 74F365SC
pins: 1 ~{OE}1 (in), 2 A1 (in), 3 Y1 (hiz), 4 A2 (in), 5 Y2 (hiz), 6 A3 (in), 7 Y3 (hiz), 8 GND (power), 9 Y4 (hiz), 10 A4 (in), 11 Y5 (hiz), 12 A5 (in), 13 Y6 (hiz), 14 A6 (in), 15 ~{OE}2 (in), 16 VCC (power)

## 74F366PC
designator U?
Hex Inverter Buffer with 3-State Output; Published: 17-Jul-2002; LatestRevisionDate: 29-May-2009; LatestRevisionNote: Component Body Added.; DatasheetVersion: Aug-1999; PackageVersion: 2000; PackageReference: N16E; Publisher: Altium Limited; PackageDescription: DIP, 16-Pin, Row Spacing 7.62 mm, Pitch 2.54 mm; ComponentLink1Description: Manufacturer Link; ComponentLink1URL: http://www.fairchildsemi.com/
footprint N16E (DIP, 16-Leads, Row Spacing 7.62mm, Pitch 2.54mm, Body 19.3x6.35mm)
3D model N16E (DIP, 16-Pin, Row Spacing 7.62 mm, Pitch 2.54 mm)
signal-integrity model 74F366PC
pins: 1 ~{OE}1 (in), 2 A1 (in), 3 ~{Y}1 (hiz), 4 A2 (in), 5 ~{Y}2 (hiz), 6 A3 (in), 7 ~{Y}3 (hiz), 8 GND (power), 9 ~{Y}6 (hiz), 10 A6 (in), 11 ~{Y}5 (hiz), 12 A5 (in), 13 ~{Y}4 (hiz), 14 A4 (in), 15 ~{OE}2 (in), 16 VCC (power)

## 74F366SC
designator U?
Hex Inverter Buffer with 3-State Output; Published: 17-Jul-2002; LatestRevisionDate: 13-Apr-2006; LatestRevisionNote: IPC-7351 Footprint Added.; DatasheetVersion: Aug-1999; PackageVersion: 2000; PackageReference: M16A; Publisher: Altium Limited; PackageDescription: 16-Pin Small Outline Integrated Circuit 1.27 mm Pitch; Code_IPC: SOIC127P600-16; ComponentLink1Description: Manufacturer Link; ComponentLink1URL: http://www.fairchildsemi.com/
footprint M16A_N (SOIC, 16-Leads, Body 9.9x3.9mm, Pitch 1.27mm, IPC Medium Density)
footprint M16A_L (SOIC, 16-Leads, Body 9.9x3.9mm, Pitch 1.27mm, IPC High Density)
footprint M16A_M (SOIC, 16-Leads, Body 9.9x3.9mm, Pitch 1.27mm, IPC Low Density)
3D model M16A (16-Pin Small Outline Integrated Circuit 1.27 mm Pitch)
signal-integrity model 74F366SC
pins: 1 ~{OE}1 (in), 2 A1 (in), 3 ~{Y}1 (hiz), 4 A2 (in), 5 ~{Y}2 (hiz), 6 A3 (in), 7 ~{Y}3 (hiz), 8 GND (power), 9 ~{Y}6 (hiz), 10 A6 (in), 11 ~{Y}5 (hiz), 12 A5 (in), 13 ~{Y}4 (hiz), 14 A4 (in), 15 ~{OE}2 (in), 16 VCC (power)

## 74F368PC
designator U?
Hex Inverter Buffer with 3-State Output; Published: 17-Jul-2002; LatestRevisionDate: 29-May-2009; LatestRevisionNote: Component Body Added.; DatasheetVersion: Aug-1999; PackageVersion: 2000; PackageReference: N16E; Publisher: Altium Limited; PackageDescription: DIP, 16-Pin, Row Spacing 7.62 mm, Pitch 2.54 mm; ComponentLink1Description: Manufacturer Link; ComponentLink1URL: http://www.fairchildsemi.com/
footprint N16E (DIP, 16-Leads, Row Spacing 7.62mm, Pitch 2.54mm, Body 19.3x6.35mm)
3D model N16E (DIP, 16-Pin, Row Spacing 7.62 mm, Pitch 2.54 mm)
signal-integrity model 74F368PC
pins on every part: 8 GND (power) hidden to GND, 16 VCC (power) hidden to VCC
part A pins: 1 ~{OE} (in), 2 A1 (in), 3 ~{Y}1 (hiz), 4 A2 (in), 5 ~{Y}2 (hiz), 6 A3 (in), 7 ~{Y}3 (hiz), 9 ~{Y}4 (hiz), 10 A4 (in)
part B pins: 11 ~{Y}2 (hiz), 12 A2 (in), 13 ~{Y}1 (hiz), 14 A1 (in), 15 ~{OE} (in)

## 74F368SC
designator U?
Hex Inverter Buffer with 3-State Output; Published: 17-Jul-2002; LatestRevisionDate: 13-Apr-2006; LatestRevisionNote: IPC-7351 Footprint Added.; DatasheetVersion: Aug-1999; PackageVersion: 2000; PackageReference: M16A; Publisher: Altium Limited; PackageDescription: 16-Pin Small Outline Integrated Circuit 1.27 mm Pitch; Code_IPC: SOIC127P600-16; ComponentLink1Description: Manufacturer Link; ComponentLink1URL: http://www.fairchildsemi.com/
footprint M16A_N (SOIC, 16-Leads, Body 9.9x3.9mm, Pitch 1.27mm, IPC Medium Density)
footprint M16A_L (SOIC, 16-Leads, Body 9.9x3.9mm, Pitch 1.27mm, IPC High Density)
footprint M16A_M (SOIC, 16-Leads, Body 9.9x3.9mm, Pitch 1.27mm, IPC Low Density)
3D model M16A (16-Pin Small Outline Integrated Circuit 1.27 mm Pitch)
signal-integrity model 74F368SC
pins on every part: 8 GND (power) hidden to GND, 16 VCC (power) hidden to VCC
part A pins: 1 ~{OE} (in), 2 A1 (in), 3 ~{Y}1 (hiz), 4 A2 (in), 5 ~{Y}2 (hiz), 6 A3 (in), 7 ~{Y}3 (hiz), 9 ~{Y}4 (hiz), 10 A4 (in)
part B pins: 11 ~{Y}2 (hiz), 12 A2 (in), 13 ~{Y}1 (hiz), 14 A1 (in), 15 ~{OE} (in)

## 74F368SJ
designator U?
Hex Inverter Buffer with 3-State Output; Published: 17-Jul-2002; LatestRevisionDate: 13-Apr-2006; LatestRevisionNote: IPC-7351 Footprint Added.; DatasheetVersion: Aug-1999; PackageVersion: 2000; PackageReference: M16D; Publisher: Altium Limited; PackageDescription: 16-Pin Small Outline Package 1.27 mm Pitch; ComponentLink1Description: Manufacturer Link; ComponentLink1URL: http://www.fairchildsemi.com/
footprint M16D_N (SOP, 16-Leads, Body 10.1x5.3mm, Pitch 1.27mm, IPC Medium Density)
footprint M16D_L (SOP, 16-Leads, Body 10.1x5.3mm, Pitch 1.27mm, IPC High Density)
footprint M16D_M (SOP, 16-Leads, Body 10.1x5.3mm, Pitch 1.27mm, IPC Low Density)
3D model M16D (16-Pin Small Outline Package 1.27 mm Pitch)
signal-integrity model 74F368SJ
pins on every part: 8 GND (power) hidden to GND, 16 VCC (power) hidden to VCC
part A pins: 1 ~{OE} (in), 2 A1 (in), 3 ~{Y}1 (hiz), 4 A2 (in), 5 ~{Y}2 (hiz), 6 A3 (in), 7 ~{Y}3 (hiz), 9 ~{Y}4 (hiz), 10 A4 (in)
part B pins: 11 ~{Y}2 (hiz), 12 A2 (in), 13 ~{Y}1 (hiz), 14 A1 (in), 15 ~{OE} (in)

## 100313PC
designator U?
Low Power Quad Driver; Note: All inputs have 50k Ohm pull-down resistors. VCC = VCCA = GND.; Published: 17-Jul-2002; LatestRevisionDate: 29-May-2009; LatestRevisionNote: Component Body Added.; DatasheetVersion: Nov-1999; PackageVersion: 1992; PackageReference: N24E; Publisher: Altium Limited; PackageDescription: DIP, 24-Pin, Row Spacing 10.16 mm, Pitch 2.54 mm; ComponentLink1Description: Manufacturer Link; ComponentLink1URL: http://www.fairchildsemi.com/; ComponentLink2Description: Datasheet; ComponentLink2URL: http://www.fairchildsemi.com/ds/10%2F100313.pdf
footprint N24E (DIP, 24-Leads, Row Spacing 10.16mm, Pitch 2.54mm, Body 30.59x8.69mm)
3D model 6Y (DIP, 24-Pin, Row Spacing 10.16 mm, Pitch 2.54 mm)
pins: 1 ~{O}2D (oe), 2 ~{O}2C (oe), 3 ~{O}1C (oe), 4 O2C (oe), 5 O1C (oe), 6 VCC (power), 7 VCCA (power), 8 O1B (oe), 9 O2B (oe), 10 ~{O}1B (oe), 11 ~{O}2B (oe), 12 ~{O}2A (oe), 13 ~{O}1A (oe), 14 O2A (oe), 15 O1A (oe), 16 DA (in), 17 DB (in), 18 VEE (power), 19 EN (in), 20 DC (in), 21 DD (in), 22 O1D (oe), 23 O2D (oe), 24 ~{O}1D (oe)

## 100313QC
designator U?
Low Power Quad Driver; Note: All inputs have 50k Ohm pull-down resistors. VCC = VCCA = GND.; Published: 17-Jul-2002; LatestRevisionDate: 13-Apr-2006; LatestRevisionNote: IPC-7351 Footprint Added.; DatasheetVersion: Nov-1999; PackageVersion: 2000; PackageReference: V28A; Publisher: Altium Limited; PackageDescription: 28-Pin Leaded Chip Carrier 1.27 mm Pitch; Code_IPC: PLCC-28; ComponentLink1Description: Manufacturer Link; ComponentLink1URL: http://www.fairchildsemi.com/; ComponentLink2Description: Datasheet; ComponentLink2URL: http://www.fairchildsemi.com/ds/10%2F100313.pdf
footprint V28A_N (Leaded Chip Carrier, 28-Leads, Body 11.5x11.5mm, Pitch 1.27mm, IPC Medium Density)
footprint V28A_L (Leaded Chip Carrier, 28-Leads, Body 11.5x11.5mm, Pitch 1.27mm, IPC High Density)
footprint V28A_M (Leaded Chip Carrier, 28-Leads, Body 11.5x11.5mm, Pitch 1.27mm, IPC Low Density)
3D model 100313-V28A (28-Pin Leaded Chip Carrier 1.27 mm Pitch)
pins: 1 VCC (power), 2 VCCA (power), 3 O1B (oe), 4 O2B (oe), 5 ~{O}1B (oe), 6 ~{O}2B (oe), 7 ~{O}2A (oe), 8 VEES (power), 9 ~{O}1A (oe), 10 O2A (oe), 11 O1A (oe), 12 DA (in), 13 DB (in), 14 VEE (power), 15 VEES (power), 16 EN (in), 17 DC (in), 18 DD (in), 19 O1D (oe), 20 O2D (oe), 21 ~{O}1D (oe), 22 VEES (power), 23 ~{O}2D (oe), 24 ~{O}2C (oe), 25 ~{O}1C (oe), 26 O2C (oe), 27 O1C (oe), 28 VCC (power)

## 100313QI
designator U?
Low Power Quad Driver; Note: All inputs have 50k Ohm pull-down resistors. VCC = VCCA = GND.; Published: 17-Jul-2002; LatestRevisionDate: 13-Apr-2006; LatestRevisionNote: IPC-7351 Footprint Added.; DatasheetVersion: Nov-1999; PackageVersion: 2000; PackageReference: V28A; Publisher: Altium Limited; PackageDescription: 28-Pin Leaded Chip Carrier 1.27 mm Pitch; Code_IPC: PLCC-28; ComponentLink1Description: Manufacturer Link; ComponentLink1URL: http://www.fairchildsemi.com/; ComponentLink2Description: Datasheet; ComponentLink2URL: http://www.fairchildsemi.com/ds/10%2F100313.pdf
footprint V28A_N (Leaded Chip Carrier, 28-Leads, Body 11.5x11.5mm, Pitch 1.27mm, IPC Medium Density)
footprint V28A_L (Leaded Chip Carrier, 28-Leads, Body 11.5x11.5mm, Pitch 1.27mm, IPC High Density)
footprint V28A_M (Leaded Chip Carrier, 28-Leads, Body 11.5x11.5mm, Pitch 1.27mm, IPC Low Density)
3D model 100313-V28A (28-Pin Leaded Chip Carrier 1.27 mm Pitch)
pins: 1 VCC (power), 2 VCCA (power), 3 O1B (oe), 4 O2B (oe), 5 ~{O}1B (oe), 6 ~{O}2B (oe), 7 ~{O}2A (oe), 8 VEES (power), 9 ~{O}1A (oe), 10 O2A (oe), 11 O1A (oe), 12 DA (in), 13 DB (in), 14 VEE (power), 15 VEES (power), 16 EN (in), 17 DC (in), 18 DD (in), 19 O1D (oe), 20 O2D (oe), 21 ~{O}1D (oe), 22 VEES (power), 23 ~{O}2D (oe), 24 ~{O}2C (oe), 25 ~{O}1C (oe), 26 O2C (oe), 27 O1C (oe), 28 VCC (power)

## 100313SC
designator U?
Low Power Quad Driver; Note: All inputs have 50k Ohm pull-down resistors. VCC = VCCA = GND.; Published: 17-Jul-2002; LatestRevisionDate: 13-Apr-2006; LatestRevisionNote: IPC-7351 Footprint Added.; DatasheetVersion: Nov-1999; PackageVersion: 2000; PackageReference: M24B; Publisher: Altium Limited; PackageDescription: 24-Pin Small Outline Integrated Circuit 1.27 mm Pitch; ComponentLink1Description: Manufacturer Link; ComponentLink1URL: http://www.fairchildsemi.com/; ComponentLink2Description: Datasheet; ComponentLink2URL: http://www.fairchildsemi.com/ds/10%2F100313.pdf
footprint M24B_N (SOIC, 24-Leads, Body 15.4x7.5mm, Pitch 1.27mm, IPC Medium Density)
footprint M24B_L (SOIC, 24-Leads, Body 15.4x7.5mm, Pitch 1.27mm, IPC High Density)
footprint M24B_M (SOIC, 24-Leads, Body 15.4x7.5mm, Pitch 1.27mm, IPC Low Density)
3D model M24B (24-Pin Small Outline Integrated Circuit 1.27 mm Pitch)
pins: 1 ~{O}2D (oe), 2 ~{O}2C (oe), 3 ~{O}1C (oe), 4 O2C (oe), 5 O1C (oe), 6 VCC (power), 7 VCCA (power), 8 O1B (oe), 9 O2B (oe), 10 ~{O}1B (oe), 11 ~{O}2B (oe), 12 ~{O}2A (oe), 13 ~{O}1A (oe), 14 O2A (oe), 15 O1A (oe), 16 DA (in), 17 DB (in), 18 VEE (power), 19 EN (in), 20 DC (in), 21 DD (in), 22 O1D (oe), 23 O2D (oe), 24 ~{O}1D (oe)

## 100316DC
designator U?
Low Power Quad Differential Line Driver with Cut-Off; Note: VCC = VCCA = GND.; Published: 17-Jul-2002; LatestRevisionDate: 29-May-2009; LatestRevisionNote: Component Body Added.; DatasheetVersion: Mar-1998; PackageVersion: Mar-1998; PackageReference: J24E; Publisher: Altium Limited; PackageDescription: DIP, 24-Pin, Row Spacing 10.16 mm, Pitch 2.54 mm; ComponentLink1Description: Manufacturer Link; ComponentLink1URL: http://www.fairchildsemi.com/
footprint J24E (DIP, 24-Leads, Row Spacing 10.16mm, Pitch 2.54mm, Body 30.48x9.14mm)
3D model 6Y (DIP, 24-Pin, Row Spacing 10.16 mm, Pitch 2.54 mm)
pins: 1 Q1 (hiz), 2 ~{Q}1 (hiz), 3 Q2 (hiz), 4 ~{Q}2 (hiz), 5 VCCQ (power), 6 VCC (power), 7 VCCA (power), 8 ~{Q}3 (hiz), 9 Q3 (hiz), 10 ~{Q}4 (hiz), 11 Q4 (hiz), 12 NC, 13 D4 (in), 14 ~{D}4 (in), 15 D3 (in), 16 ~{D}3 (in), 17 VEEQ (power), 18 VEE (power), 19 OE (in), 20 VBB (out), 21 ~{D}2 (in), 22 D2 (in), 23 ~{D}1 (in), 24 D1 (in)

## 100316QC
designator U?
Low Power Quad Differential Line Driver with Cut-Off; Note: VCC = VCCA = GND.; Published: 17-Jul-2002; LatestRevisionDate: 13-Apr-2006; LatestRevisionNote: IPC-7351 Footprint Added.; DatasheetVersion: Nov-1999; PackageVersion: 2000; PackageReference: V28A; Publisher: Altium Limited; PackageDescription: 28-Pin Leaded Chip Carrier 1.27 mm Pitch; Code_IPC: PLCC-28; ComponentLink1Description: Manufacturer Link; ComponentLink1URL: http://www.fairchildsemi.com/
footprint V28A_N (Leaded Chip Carrier, 28-Leads, Body 11.5x11.5mm, Pitch 1.27mm, IPC Medium Density)
footprint V28A_L (Leaded Chip Carrier, 28-Leads, Body 11.5x11.5mm, Pitch 1.27mm, IPC High Density)
footprint V28A_M (Leaded Chip Carrier, 28-Leads, Body 11.5x11.5mm, Pitch 1.27mm, IPC Low Density)
3D model 100316-V28A (28-Pin Leaded Chip Carrier 1.27 mm Pitch)
pins: 1 VCC (power), 2 VCCA (power), 3 ~{Q}3 (hiz), 4 Q3 (hiz), 5 ~{Q}4 (hiz), 6 Q4 (hiz), 7 NC, 8 VEES (power), 9 D4 (in), 10 ~{D}4 (in), 11 D3 (in), 12 ~{D}3 (in), 13 VEEQ (power), 14 VEE (power), 15 VEES (power), 16 OE (in), 17 VBB (out), 18 ~{D}2 (in), 19 D2 (in), 20 ~{D}1 (in), 21 D1 (in), 22 VEES (power), 23 Q1 (hiz), 24 ~{Q}1 (hiz), 25 Q2 (hiz), 26 ~{Q}2 (hiz), 27 VCCQ (power), 28 VCC (power)

## 100316QI
designator U?
Low Power Quad Differential Line Driver with Cut-Off; Note: VCC = VCCA = GND.; Published: 17-Jul-2002; LatestRevisionDate: 13-Apr-2006; LatestRevisionNote: IPC-7351 Footprint Added.; DatasheetVersion: Nov-1999; PackageVersion: 2000; PackageReference: V28A; Publisher: Altium Limited; PackageDescription: 28-Pin Leaded Chip Carrier 1.27 mm Pitch; Code_IPC: PLCC-28; ComponentLink1Description: Manufacturer Link; ComponentLink1URL: http://www.fairchildsemi.com/
footprint V28A_N (Leaded Chip Carrier, 28-Leads, Body 11.5x11.5mm, Pitch 1.27mm, IPC Medium Density)
footprint V28A_L (Leaded Chip Carrier, 28-Leads, Body 11.5x11.5mm, Pitch 1.27mm, IPC High Density)
footprint V28A_M (Leaded Chip Carrier, 28-Leads, Body 11.5x11.5mm, Pitch 1.27mm, IPC Low Density)
3D model 100316-V28A (28-Pin Leaded Chip Carrier 1.27 mm Pitch)
pins: 1 VCC (power), 2 VCCA (power), 3 ~{Q}3 (hiz), 4 Q3 (hiz), 5 ~{Q}4 (hiz), 6 Q4 (hiz), 7 NC, 8 VEES (power), 9 D4 (in), 10 ~{D}4 (in), 11 D3 (in), 12 ~{D}3 (in), 13 VEEQ (power), 14 VEE (power), 15 VEES (power), 16 OE (in), 17 VBB (out), 18 ~{D}2 (in), 19 D2 (in), 20 ~{D}1 (in), 21 D1 (in), 22 VEES (power), 23 Q1 (hiz), 24 ~{Q}1 (hiz), 25 Q2 (hiz), 26 ~{Q}2 (hiz), 27 VCCQ (power), 28 VCC (power)

## 100319QC
designator U?
Low Power Hex Line Driver with Cut-Off; Note: VCC = VCCA = GND.; Published: 17-Jul-2002; LatestRevisionDate: 13-Apr-2006; LatestRevisionNote: IPC-7351 Footprint Added.; DatasheetVersion: Nov-1999; PackageVersion: 2000; PackageReference: V28A; Publisher: Altium Limited; PackageDescription: 28-Pin Leaded Chip Carrier 1.27 mm Pitch; Code_IPC: PLCC-28; ComponentLink1Description: Manufacturer Link; ComponentLink1URL: http://www.fairchildsemi.com/
footprint V28A_N (Leaded Chip Carrier, 28-Leads, Body 11.5x11.5mm, Pitch 1.27mm, IPC Medium Density)
footprint V28A_L (Leaded Chip Carrier, 28-Leads, Body 11.5x11.5mm, Pitch 1.27mm, IPC High Density)
footprint V28A_M (Leaded Chip Carrier, 28-Leads, Body 11.5x11.5mm, Pitch 1.27mm, IPC Low Density)
3D model 100319-V28A (28-Pin Leaded Chip Carrier 1.27 mm Pitch)
pins: 1 VCC (power), 2 VCCA (power), 3 ~{Q}3 (oe), 4 Q3 (oe), 5 ~{Q}4 (oe), 6 Q4 (oe), 7 ~{Q}5 (oe), 8 VEES (power), 9 Q5 (oe), 10 D5 (in), 11 D4 (in), 12 D3 (in), 13 VEEQ (power), 14 VEE (power), 15 VEES (power), 16 OE (in), 17 D2 (in), 18 D1 (in), 19 D6 (in), 20 Q6 (oe), 21 ~{Q}6 (oe), 22 VEES (power), 23 Q1 (hiz), 24 ~{Q}1 (hiz), 25 Q2 (hiz), 26 ~{Q}2 (hiz), 27 VCCQ (power), 28 VCC (power)

## 100319QI
designator U?
Low Power Hex Line Driver with Cut-Off; Note: VCC = VCCA = GND.; Published: 17-Jul-2002; LatestRevisionDate: 13-Apr-2006; LatestRevisionNote: IPC-7351 Footprint Added.; DatasheetVersion: Nov-1999; PackageVersion: 2000; PackageReference: V28A; Publisher: Altium Limited; PackageDescription: 28-Pin Leaded Chip Carrier 1.27 mm Pitch; Code_IPC: PLCC-28; ComponentLink1Description: Manufacturer Link; ComponentLink1URL: http://www.fairchildsemi.com/
footprint V28A_N (Leaded Chip Carrier, 28-Leads, Body 11.5x11.5mm, Pitch 1.27mm, IPC Medium Density)
footprint V28A_L (Leaded Chip Carrier, 28-Leads, Body 11.5x11.5mm, Pitch 1.27mm, IPC High Density)
footprint V28A_M (Leaded Chip Carrier, 28-Leads, Body 11.5x11.5mm, Pitch 1.27mm, IPC Low Density)
3D model 100319-V28A (28-Pin Leaded Chip Carrier 1.27 mm Pitch)
pins: 1 VCC (power), 2 VCCA (power), 3 ~{Q}3 (oe), 4 Q3 (oe), 5 ~{Q}4 (oe), 6 Q4 (oe), 7 ~{Q}5 (oe), 8 VEES (power), 9 Q5 (oe), 10 D5 (in), 11 D4 (in), 12 D3 (in), 13 VEEQ (power), 14 VEE (power), 15 VEES (power), 16 OE (in), 17 D2 (in), 18 D1 (in), 19 D6 (in), 20 Q6 (oe), 21 ~{Q}6 (oe), 22 VEES (power), 23 Q1 (hiz), 24 ~{Q}1 (hiz), 25 Q2 (hiz), 26 ~{Q}2 (hiz), 27 VCCQ (power), 28 VCC (power)